# EAGLE library part BLUETOOTH_RN42_HEADER (library MMC Eagle)
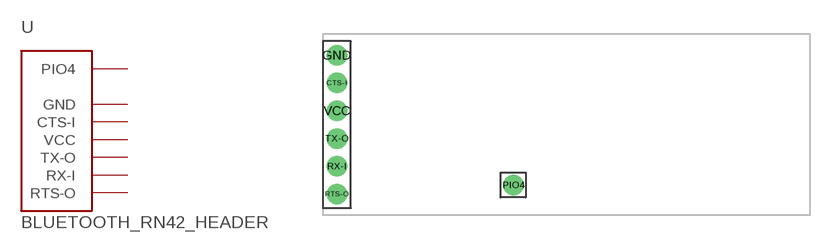
[diagram p16: symbol with the pads of BLUE_RN42_HEADER; footprint BLUE_RN42_HEADER]

Designator prefix -

## BLUETOOTH_RN42_HEADER  [BLUE_RN42_HEADER]
CTS-I  CTS-I  in
GND  GND  sup
PIO4  PIO4  in
RTS-O  RTS-O  out
RX-I  RX-I  in
TX-O  TX-O  out
VCC  VCC  pwr

## Footprint BLUE_RN42_HEADER (pad centres in mm)
Description: SparkFun BlueSMiRF Silver Header Footprint
drill 1.016 pad 1.88: CTS-I 1.27,12.065; GND 1.27,14.605; PIO4 17.399,2.731; RTS-O 1.27,1.905; RX-I 1.27,4.445; TX-O 1.27,6.985; VCC 1.27,9.525